# Altium schematic symbol library rohm-diode.SchLib: 2 symbols
Pins are listed as number, name and electrical type; pins without a type are passive.

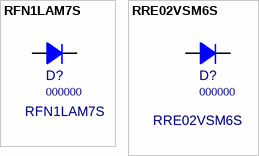
[diagram p0: symbols RFN1LAM7S to RRE02VSM6S]

## RFN1LAM7S
designator D?, comment 000000  value RFN1LAM7S
Diode 700V 0.8A; MF PN: RFN1LAM7STR; PN: 000000; Package: SOD-128; ExtraInfo: *; Digi-Key PN: RFN1LAM7SCT-ND; Price: 0.09108
footprint SOD-128-HV (Molded Diode, 2-Leads, Body 2.6x1.6mm, IPC Medium Density)
pins: 1 A, 2 K

## RRE02VSM6S
designator D?, comment 000000  value RRE02VSM6S
Diode 600V 200mA; MF PN: RRE02VSM6STR; PN: 000000; Package: SOD-323HE; ExtraInfo: *; Digi-Key PN: RRE02VSM6SCT-ND; Price: 0.07894
footprint SOD-323F-HV (Molded Diode, 2-Leads, Flat - High Voltage)
pins: 1 A, 2 K